# EAGLE library part SM08B-GHS-TB (library con-jst-cubic)
JST EGH SM08B-GHS-TB side entry 8 pin
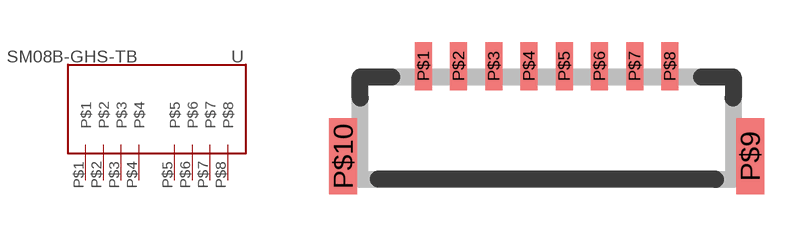
[diagram p0: symbol with the pads of B4B-ZR-SM4-TF; footprint B4B-ZR-SM4-TF]

Designator prefix -

## SM08B-GHS-TB  [B4B-ZR-SM4-TF]
P$1  P$1
P$2  P$2
P$3  P$3
P$4  P$4
P$5  P$5
P$6  P$6
P$7  P$7
P$8  P$8

## Footprint B4B-ZR-SM4-TF (pad centres in mm)
JST EGH SM08B-GHS-TB side entry 8 pin
smd 0.6 x 1.7: P$1 -4.375,1.85; P$2 -3.125,1.85; P$3 -1.875,1.85; P$4 -0.625,1.85; P$5 0.625,1.85; P$6 1.875,1.85; P$7 3.125,1.85; P$8 4.375,1.85
smd 1 x 2.7: P$9 7.225,-1.35; P$10 -7.225,-1.35